# Altium schematic symbol library 5MS1S102AM6QES.SchLib: 1 symbol
Pins are listed as number, name and electrical type; pins without a type are passive.

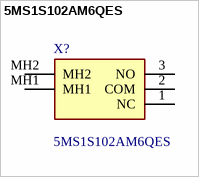
[diagram p0: symbol 5MS1S102AM6QES]

## 5MS1S102AM6QES
designator X?
Slide Switches ON-ON SPDT Right; Manufacturer_Name: Dailywell; Geometry.Height: 6.6mm; Mouser Part Number: 118-5MS1S102AM6QES; Mouser Price/Stock: https://www.mouser.co.uk/ProductDetail/Dailywell/5MS1S102AM6QES?qs=B6kkDfuK7%2FBHVJoQEkyphg%3D%3D; Manufacturer_Part_Number: 5MS1S102AM6QES; Datasheet Link: *
footprint 5MS1S102AM6QES
pins: 1 NC, 2 COM, 3 NO, MH1, MH2